# Altium footprint library L_SDR1006.PcbLib: 1 footprints
Each footprint in its own frame and in the unit in brackets; x right, y up, seen from the top. Pads: shape width x height; smd on the part's side, far side on the other; paste and mask are expansions set on the pad; w line width, h text height; cw(c..) or ccw(c..) is an arc to the next point about the centre after c.
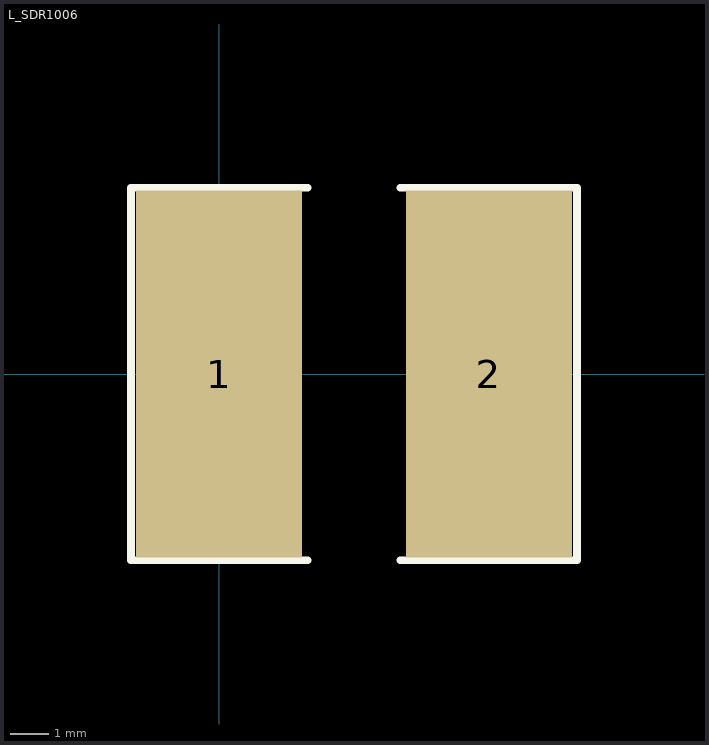
[diagram p0: the footprint, top view; thin cyan lines are the x and y axes]

## L_SDR1006 [mm]
pads (2):
  rect 4.3x9.5 smd: 1(0,0) 2(6.985,0)
Top Overlay:
  lines w0.2: 2.286,-4.826 -2.286,-4.826 -2.286,4.826 2.286,4.826 ; 4.699,-4.826 9.271,-4.826 9.271,4.826 4.699,4.826